# Altium schematic symbol library SCH - ARM CORTEX - STM STM8L050J3Mx.SchLib: 1 symbol
Pins are listed as number, name and electrical type; pins without a type are passive.

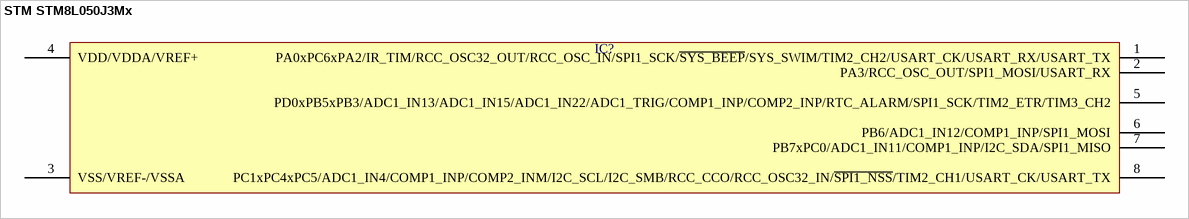
[diagram p0: symbol STM STM8L050J3Mx]

## STM STM8L050J3Mx
designator IC?  (value not drawn)
pins: 1 PA0xPC6xPA2/IR_TIM/RCC_OSC32_OUT/RCC_OSC_IN/SPI1_SCK/~{SYS_BEEP}/SYS_SWIM/TIM2_CH2/USART_CK/USART_RX/USART_TX, 2 PA3/RCC_OSC_OUT/SPI1_MOSI/USART_RX, 3 VSS/VREF-/VSSA, 4 VDD/VDDA/VREF+, 5 PD0xPB5xPB3/ADC1_IN13/ADC1_IN15/ADC1_IN22/ADC1_TRIG/COMP1_INP/COMP2_INP/RTC_ALARM/SPI1_SCK/TIM2_ETR/TIM3_CH2, 6 PB6/ADC1_IN12/COMP1_INP/SPI1_MOSI, 7 PB7xPC0/ADC1_IN11/COMP1_INP/I2C_SDA/SPI1_MISO, 8 PC1xPC4xPC5/ADC1_IN4/COMP1_INP/COMP2_INM/I2C_SCL/I2C_SMB/RCC_CCO/RCC_OSC32_IN/~{SPI1_NSS}/TIM2_CH1/USART_CK/USART_TX